# EAGLE library part LRTB_R98G (library led_rgb)
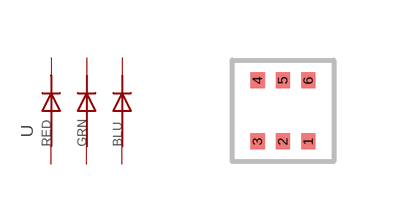
[diagram p0: symbol with the pads of LED_LRTBR98G; footprint LED_LRTBR98G]

Designator prefix -

## LRTB_R98G  [LED_LRTBR98G]
1  BLUA
2  GRNA
3  REDA
4  REDC
5  GRNC
6  BLUC

## Footprint LED_LRTBR98G (pad centres in mm)
smd 0.356 x 0.406: 1 0.635,-0.762; 2 0,-0.762; 3 -0.635,-0.762; 4 -0.635,0.762; 5 0,0.762; 6 0.635,0.762